# EAGLE library part CONN_14-1 (library pel_molex)
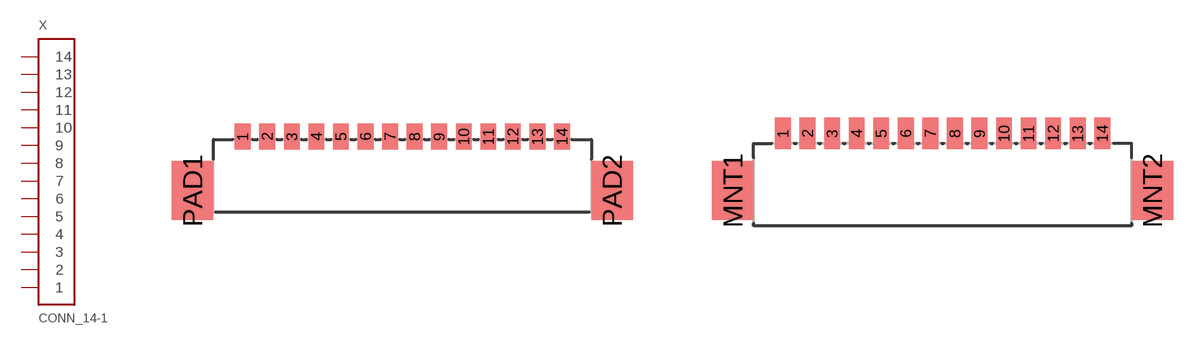
[diagram p4: symbol with the pads of PB-53398-14; footprints PB-53398-14, PB-53261-14]

Designator prefix X

## CONN_14-1-53398  [PB-53398-14]
1  1
2  2
3  3
4  4
5  5
6  6
7  7
8  8
9  9
10  10
11  11
12  12
13  13
14  14

## CONN_14-1-53261  [PB-53261-14]
Pads as for PB-53398-14

## CONN_14-1-53047  [PB-53047-14]
Pads as for PB-53398-14

## Footprint PB-53398-14 (pad centres in mm)
smd 0.8 x 1.3: 1 -8.125,1.25; 2 -6.875,1.25; 3 -5.625,1.25; 4 -4.375,1.25; 5 -3.125,1.25; 6 -1.875,1.25; 7 -0.625,1.25; 8 0.625,1.25; 9 1.875,1.25; 10 3.125,1.25; 11 4.375,1.25; 12 5.625,1.25; 13 6.875,1.25; 14 8.125,1.25
smd 2.1 x 3: PAD1 -10.675,-1.5; PAD2 10.675,-1.5

## Footprint PB-53261-14 (pad centres in mm)
smd 0.8 x 1.6: 1 -8.125,1.1; 2 -6.875,1.1; 3 -5.625,1.1; 4 -4.375,1.1; 5 -3.125,1.1; 6 -1.875,1.1; 7 -0.625,1.1; 8 0.625,1.1; 9 1.875,1.1; 10 3.125,1.1; 11 4.375,1.1; 12 5.625,1.1; 13 6.875,1.1; 14 8.125,1.1
smd 2.1 x 3: MNT1 -10.675,-1.8; MNT2 10.675,-1.8

## Footprint PB-53047-14 (pad centres in mm)
drill 0.5: 1 -8.125,0; 2 -6.875,0; 3 -5.625,0; 4 -4.375,0; 5 -3.125,0; 6 -1.875,0; 7 -0.625,0; 8 0.625,0; 9 1.875,0; 10 3.125,0; 11 4.375,0; 12 5.625,0; 13 6.875,0; 14 8.125,0